# Altium integrated library DigitalClock.IntLib: 3 symbols
Pins are listed as number, name and electrical type; pins without a type are passive.

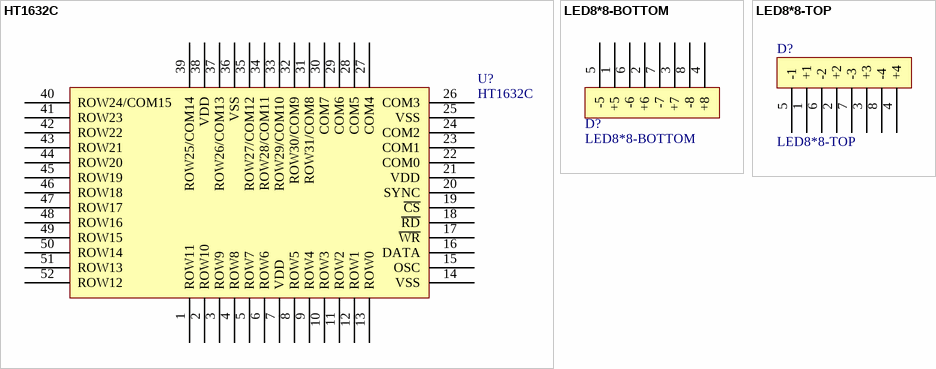
[diagram p0: symbols HT1632C to LED8*8-TOP]

## HT1632C
designator U?
32×8 & 24×16 LED 驱动芯片
footprint QFP52-14mm-1.0mm (QFP, 52-Leads, Body 14.00x14.00mm, Pitch 1.00mm, IPC Medium Density)
pins: 1 ROW11, 2 ROW10, 3 ROW9, 4 ROW8, 5 ROW7, 6 ROW6, 7 VDD, 8 ROW5, 9 ROW4, 10 ROW3, 11 ROW2, 12 ROW1, 13 ROW0, 14 VSS, 15 OSC, 16 DATA, 17 ~{WR}, 18 ~{RD}, 19 ~{CS}, 20 SYNC, 21 VDD, 22 COM0, 23 COM1, 24 COM2, 25 VSS, 26 COM3, 27 COM4, 28 COM5, 29 COM6, 30 COM7, 31 ROW31/COM8, 32 ROW30/COM9, 33 ROW29/COM10, 34 ROW28/COM11, 35 ROW27/COM12, 36 VSS, 37 ROW26/COM13, 38 VDD, 39 ROW25/COM14, 40 ROW24/COM15, 41 ROW23, 42 ROW22, 43 ROW21, 44 ROW20, 45 ROW19, 46 ROW18, 47 ROW17, 48 ROW16, 49 ROW15, 50 ROW14, 51 ROW13, 52 ROW12

## LED8*8-BOTTOM
designator D?
8*8LED点阵下半部分
footprint LED8*8-half
pins: 1 +5, 2 +6, 3 +7, 4 +8, 5 -5, 6 -6, 7 -7, 8 -8

## LED8*8-TOP
designator D?
8*8LED点阵上半部分
footprint LED8*8-half
pins: 1 +1, 2 +2, 3 +3, 4 +4, 5 -1, 6 -2, 7 -3, 8 -4